# EAGLE library part HIH9131 (library stepOSP)
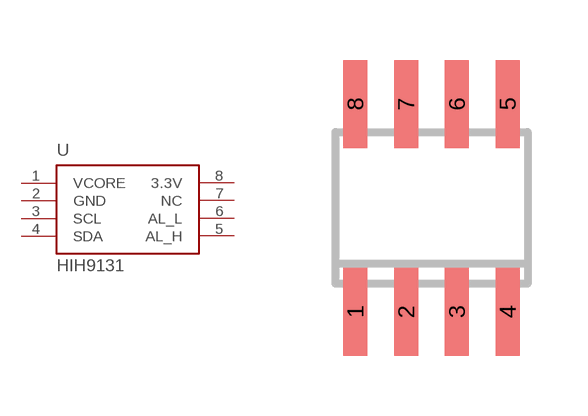
[diagram p23: symbol with the pads of SO-08; footprint SO-08]

Designator prefix -

## HIH9131  [SO-08]
1  VCORE
2  GND
3  SCL
4  SDA
5  AL_H
6  AL_L
7  NC
8  3.3V

## Footprint SO-08 (pad centres in mm)
Small Outline Narrow Plastic Gull Wing 150-mil body, package type SN
smd 0.6 x 2.2: 1 -1.905,-2.6; 2 -0.635,-2.6; 3 0.635,-2.6; 4 1.905,-2.6; 5 1.905,2.6; 6 0.635,2.6; 7 -0.635,2.6; 8 -1.905,2.6